# Altium footprint library PZEM-004T.PcbLib: 1 footprints
Each footprint in its own frame and in the unit in brackets; x right, y up, seen from the top. Pads: shape width x height; smd on the part's side, far side on the other; paste and mask are expansions set on the pad; w line width, h text height; cw(c..) or ccw(c..) is an arc to the next point about the centre after c.
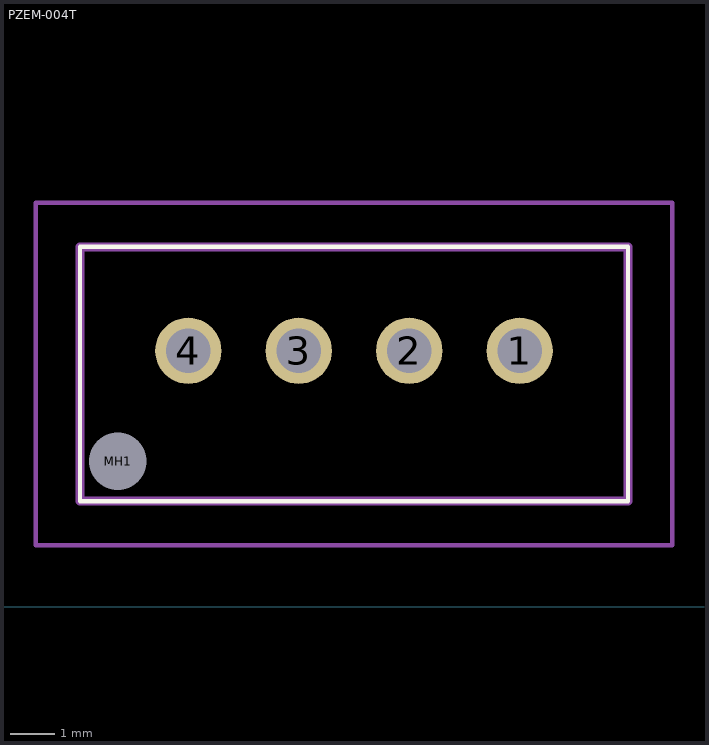
[diagram p0: the footprint, top view; thin cyan lines are the x and y axes]

## PZEM-004T [mm]
pads (5):
  round 1.5 hole 1: 1(11.857,5.796) 2(9.357,5.796) 3(6.857,5.796) 4(4.357,5.796)
  round 0.65 hole 1.3 unplated: MH1(2.757,3.296)
Top Overlay:
  lines w0.1: 1.907,2.396 14.307,2.396 14.307,8.146 1.907,8.146 1.907,2.396
Mechanical 13:
  lines w0.2: 1.907,2.396 14.307,2.396 14.307,8.146 1.907,8.146 1.907,2.396
Mechanical 15:
  lines w0.1: 0.907,1.396 15.307,1.396 15.307,9.146 0.907,9.146 0.907,1.396
3D body "B4B-XH-AM__LF__SN_.stp": height 7.06, standoff -3.34, extent 1.951,2.413 14.351,8.163
3D body "Pzem-004t.SLDPRT": height 17.39, standoff 6.35, extent -6.491,-0.02 23.509,74.18